# Altium footprint library JLC_25.PcbLib: 87 footprints (part 4 of 6)
Each footprint in its own frame and in the unit in brackets; x right, y up, seen from the top. Pads: shape width x height; smd on the part's side, far side on the other; paste and mask are expansions set on the pad; w line width, h text height; cw(c..) or ccw(c..) is an arc to the next point about the centre after c.
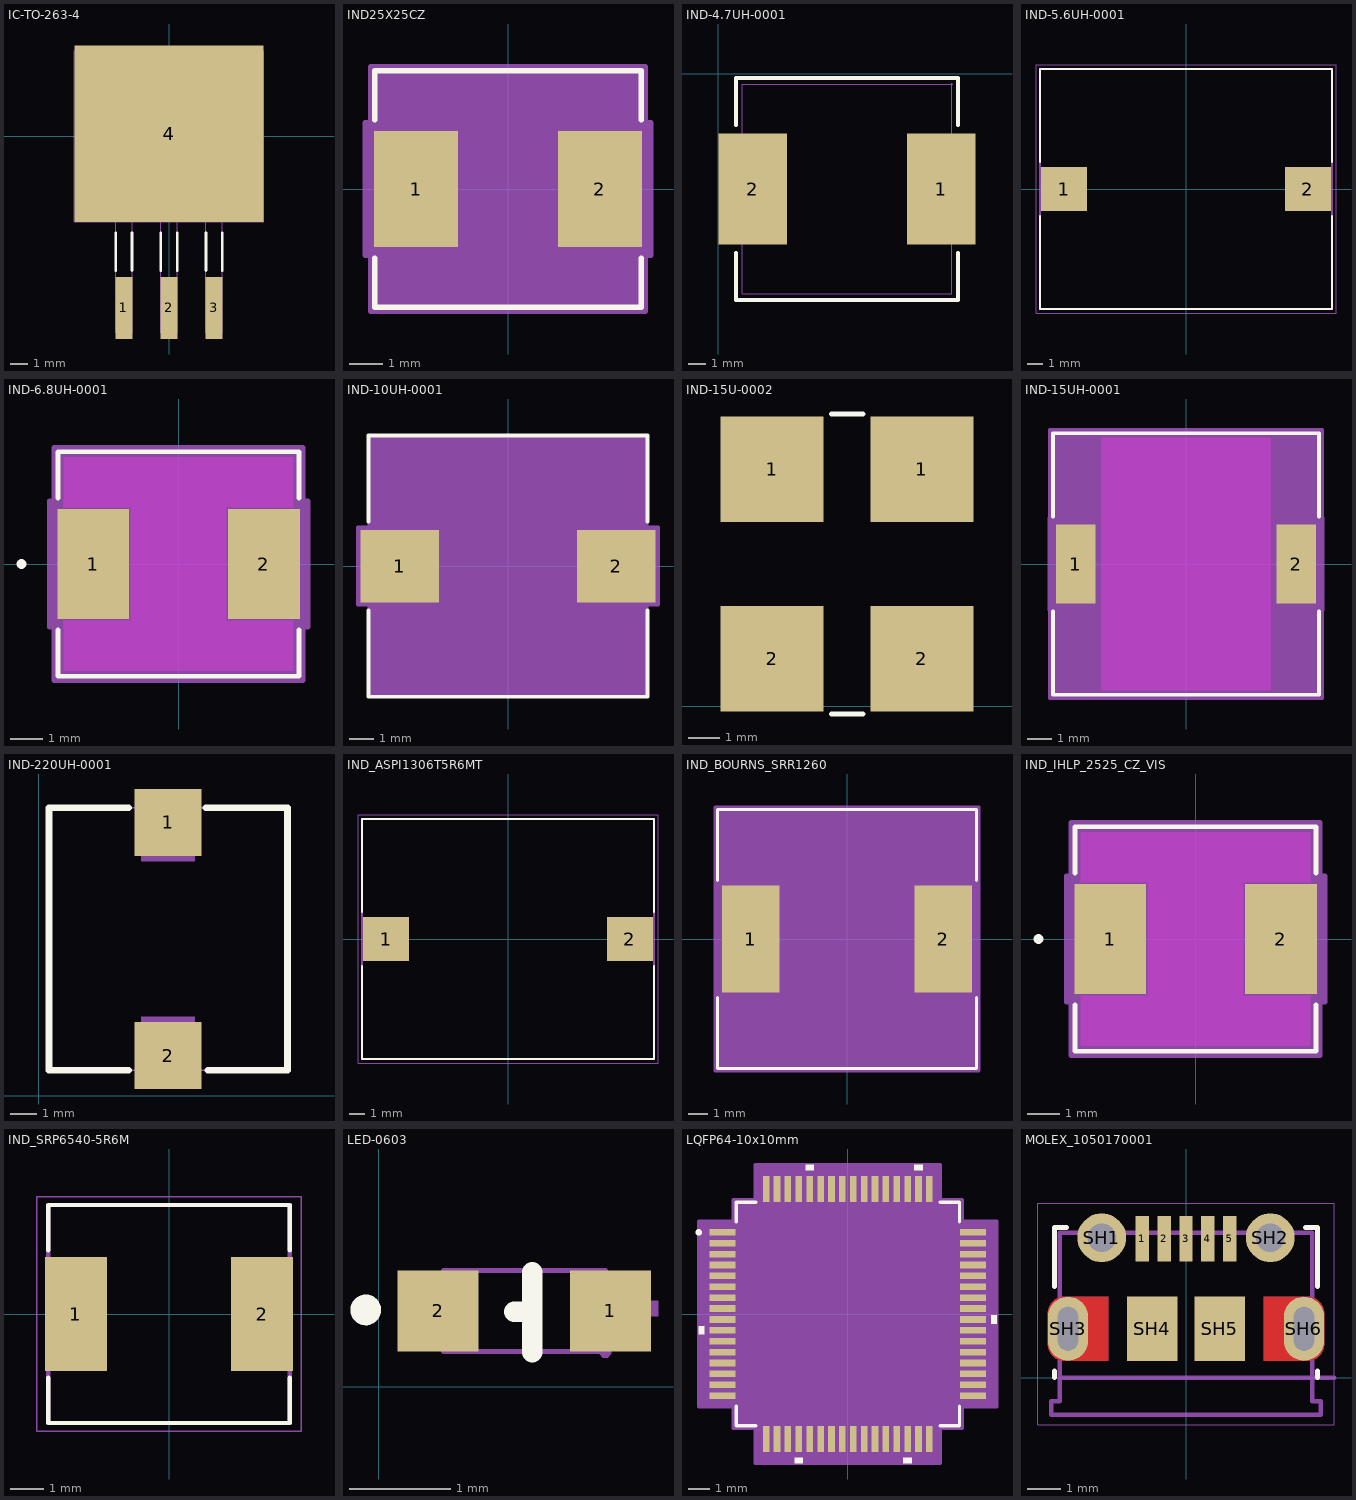
[diagram p3: the footprints below, top view; thin cyan lines are the x and y axes]

## IC-TO-263-4 [mil]
pads (4):
  rect 38x138 smd paste-69 mask-69: 1(-100,-381) 2(0,-381) 3(100,-381)
  rect 420x392 smd paste-210 mask-210: 4(0,6)
Top Overlay:
  lines w6: -118,-298 -118,-214 ; -82,-298 -82,-214 ; -18,-298 -18,-214 ; 18,-298 18,-214 ; 82,-298 82,-214 ; 118,-298 118,-214
Mechanical 13:
  lines w1: -210,-190 210,-190 210,190 -210,190 -210,-190 ; -118,-436 -118,-190 -82,-190 -82,-436 -118,-436 ; -18,-436 -18,-190 18,-190 18,-436 -18,-436 ; 82,-436 82,-190 118,-190 118,-436 82,-436
3D body "ktt3.step": height 67.09, standoff -2.01, extent -210,-365 210,118.11

## IND25X25CZ [mil]
pads (2):
  rect 98x135 smd paste-67.5 mask-67.5: 1(-107,0) 2(107,0)
Top Overlay:
  lines w6: -155,-80.6 -155,-137.5 155,-137.5 155,-80.6 ; -155,80.6 -155,137.5 155,137.5 155,80.6
Mechanical 13:
  lines w1: -150,-132.5 150,-132.5 150,132.5 -150,132.5 -150,-132.5
Mechanical 15:
  region: -160,-77.5 -166,-77.5 -166,77.5 -160,77.5 -160,142.5 160,142.5 160,77.5 166,77.5 166,-77.5 160,-77.5 160,-142.5 -160,-142.5
  region: 150,-132.5 -150,-132.5 -150,132.5 150,132.5
  lines w6: -166,-77.5 -166,77.5 -160,77.5 -160,142.5 160,142.5 160,77.5 166,77.5 166,-77.5 160,-77.5 160,-142.5 -160,-142.5 -160,-77.5 -166,-77.5
3D body "IND25X25CZ.step": height 117.99, standoff 0, extent -150,-132.52 150,132.52

## IND-4.7UH-0001 [mm]
pads (2):
  rect 4x6.5 smd paste+0 mask+0.051: 1(13,-6.731) 2(2,-6.731)
Top Overlay:
  lines w0.254: 1.023,-10.462 1.023,-13.208 2.039,-13.208 7.5,-13.208 12.898,-13.208 13.977,-13.208 13.977,-10.462 ; 1.023,-3 1.023,-0.254 2.103,-0.254 7.5,-0.254 12.961,-0.254 13.977,-0.254 13.977,-3
Mechanical 15:
  region: 13.66,-0.631 13.66,-0.606 13.625,-0.572 13.576,-0.572 13.541,-0.606 13.54,-0.631 13.541,-0.655 13.576,-0.69 13.625,-0.69 13.66,-0.655
  region: 11.4,-4.231 13.6,-4.231 13.6,-9.231 11.4,-9.231
  region: 1.4,-4.231 3.6,-4.231 3.6,-9.231 1.4,-9.231
  lines w0.051: 1.4,-12.831 1.4,-0.631 13.6,-0.631 13.6,-12.831 1.4,-12.831

## IND-5.6UH-0001 [mm]
height 7.11
pads (2):
  rect 2.92x2.79 smd: 1(-7.73,0) 2(7.73,0)
Top Overlay:
  lines w0.127: -9.27,-1.715 -9.27,-7.62 9.27,-7.62 9.27,-1.715 ; -9.27,1.715 -9.27,7.62 9.27,7.62 9.27,1.715
Mechanical 13:
  lines w0.127: -9.27,-7.62 -9.27,7.62 9.27,7.62 9.27,-7.62 -9.27,-7.62
Mechanical 15:
  lines w0.05: -9.52,-7.87 -9.52,7.87 9.52,7.87 9.52,-7.87 -9.52,-7.87
3D body "ASPI-1306T.STEP": height 6.23, standoff -0.87, extent -9.27,-7.62 9.27,7.62

## IND-6.8UH-0001 [mil]
pads (2):
  rect 88x135 smd paste+0 mask+0: 1(-104.5,0) 2(104.5,0)
Top Layer keep-out:
  region: -140.5,-130.5 -140.5,-69.5 140.5,-69.5 140.5,-130.5
  region: -140.5,69.5 -140.5,130.5 140.5,130.5 140.5,69.5
  region: -58.5,-69.5 -58.5,69.5 58.5,69.5 58.5,-69.5
Top Overlay:
  circle w6: c-192.5,0 r3
  lines w6: -147.5,-80.6 -147.5,-137.5 147.5,-137.5 147.5,-80.6 ; -147.5,80.6 -147.5,137.5 147.5,137.5 147.5,80.6
Keep-Out Layer:
  region: -58.5,-69.5 -58.5,69.5 58.5,69.5 58.5,-69.5
Mechanical 13:
  circle w0: c-122.5,0 r3
  lines w1: -142.5,-132.5 -142.5,132.5 142.5,132.5 142.5,-132.5 -142.5,-132.5
Mechanical 15:
  region: -152.5,-77.5 -158.5,-77.5 -158.5,77.5 -152.5,77.5 -152.5,142.5 152.5,142.5 152.5,77.5 158.5,77.5 158.5,-77.5 152.5,-77.5 152.5,-142.5 -152.5,-142.5
  lines w6: -158.5,-77.5 -152.5,-77.5 -152.5,-142.5 152.5,-142.5 152.5,-77.5 158.5,-77.5 158.5,77.5 152.5,77.5 152.5,142.5 -152.5,142.5 -152.5,77.5 -158.5,77.5 -158.5,-77.5
3D body "IND_IHLP-2525CZ_VIS.step": height 120, standoff 0, extent -142.52,-132.52 142.52,132.52

## IND-10UH-0001 [mil]
pads (2):
  rect 126x116 smd paste+0 mask+0: 1(-173.5,0) 2(173.5,0)
Top Overlay:
  lines w6: -223.5,-71.1 -223.5,-209.5 223.5,-209.5 223.5,-71.1 ; -223.5,71.1 -223.5,209.5 223.5,209.5 223.5,71.1
Mechanical 13:
  circle w0: c-110.5,0 r3
  lines w0: -12,204.5 ccw(c0,204.5) 12,204.5
  lines w1: -218.5,-204.5 -218.5,204.5 218.5,204.5 218.5,-204.5 -218.5,-204.5
Mechanical 15:
  region: -222.5,-62 -240.5,-62 -240.5,62 -222.5,62 -222.5,208.5 222.5,208.5 222.5,62 240.5,62 240.5,-62 222.5,-62 222.5,-208.5 -222.5,-208.5
  lines w6: -240.5,-62 -222.5,-62 -222.5,-208.5 222.5,-208.5 222.5,-62 240.5,-62 240.5,62 222.5,62 222.5,208.5 -222.5,208.5 -222.5,62 -240.5,62 -240.5,-62
3D body "IND_BMRF001010401_PUL.step": height 157.09, standoff 0, extent -228.5,-204.49 228.5,204.49

## IND-15U-0002 [mm] "12V Buck"
pads (4):
  rect 3.3x3.4 smd paste+0 mask+0: 1(3.175,7.62) 1(8.001,7.62) 2(3.175,1.524) 2(8.001,1.524)
Top Overlay:
  lines w0.152: 5.08,-0.254 6.115,-0.254 ; 5.08,9.398 6.115,9.398
3D body "CSAD1010 3D Model.stp": height 10.79, standoff 0.01, extent -0.189,-0.328 11.111,9.472

## IND-15UH-0001 [mil] "7v Buck"
pads (2):
  rect 63x126 smd paste+0 mask+0: 1(-175.5,0) 2(175.5,0)
Top Layer keep-out:
  region: -135,-201 -135,201 135,201 135,-201
Top Overlay:
  lines w6: -211.5,-75.3 -211.5,-208 211.5,-208 211.5,-75.3 ; -211.5,75.3 -211.5,208 211.5,208 211.5,75.3
Mechanical 13:
  lines w1: -206.5,-203 206.5,-203 206.5,203 -206.5,203 -206.5,-203
Mechanical 15:
  region: -216.5,-73 -217,-73 -217,73 -216.5,73 -216.5,213 216.5,213 216.5,73 217,73 217,-73 216.5,-73 216.5,-213 -216.5,-213
  region: 206.5,-203 -206.5,-203 -206.5,203 206.5,203
  lines w6: -217,-73 -217,73 -216.5,73 -216.5,213 216.5,213 216.5,73 217,73 217,-73 216.5,-73 216.5,-213 -216.5,-213 -216.5,-73 -217,-73
3D body "DR1040.step": height 157.99, standoff 0, extent -206.5,-202.99 206.5,202.99

## IND-220UH-0001 [mm]
pads (2):
  rect 2.5x2.5 smd paste+0 mask+0.05: 1(4.831,10.204) 2(4.831,1.504)
Top Overlay:
  lines w0.254: 3.35,0.954 0.381,0.954 0.381,10.754 3.35,10.754 ; 6.231,10.754 9.281,10.754 9.281,0.954 6.312,0.954
Mechanical 15:
  region: 9.341,10.754 9.341,10.779 9.306,10.814 9.256,10.814 9.221,10.779 9.221,10.754 9.221,10.729 9.256,10.694 9.306,10.694 9.341,10.729
  region: 3.831,2.954 5.831,2.954 5.831,1.454 3.831,1.454
  region: 3.831,10.254 5.831,10.254 5.831,8.754 3.831,8.754
  lines w0.051: 0.381,0.954 0.381,10.754 3.832,10.754 3.832,10.254 5.831,10.254 5.831,10.754 9.281,10.754 9.281,0.954 5.831,0.954 5.83,1.454 3.832,1.454 3.832,0.954 0.381,0.954

## IND_ASPI1306T5R6MT [mm]
height 7.11
pads (2):
  rect 2.92x2.79 smd: 1(-7.73,0) 2(7.73,0)
Top Overlay:
  lines w0.127: -9.27,-1.715 -9.27,-7.62 9.27,-7.62 9.27,-1.715 ; -9.27,1.715 -9.27,7.62 9.27,7.62 9.27,1.715
Mechanical 13:
  lines w0.127: -9.27,-7.62 9.27,-7.62 9.27,7.62 -9.27,7.62 -9.27,-7.62
Mechanical 15:
  lines w0.05: -9.52,-7.87 9.52,-7.87 9.52,7.87 -9.52,7.87 -9.52,-7.87

## IND_BOURNS_SRR1260 [mil]
pads (2):
  rect 114x213 smd paste+0 mask+0: 1(-191,0) 2(191,0)
Top Overlay:
  lines w6: -257,-116.02 -257,-257 257,-257 257,-116.02 ; -257,116.02 -257,257 257,257 257,116.02
Mechanical 13:
  lines w1: -252,-252 -252,252 252,252 252,-252 -252,-252
Mechanical 15:
  region: -262,-116.5 -262,116.5 -262,262 262,262 262,116.5 262,-116.5 262,-262 -262,-262
  lines w6: -262,-262 262,-262 262,-116.5 262,116.5 262,262 -262,262 -262,116.5 -262,-116.5 -262,-262
3D body "IND_BOURNS_SRR1260.step": height 255.98, standoff 0, extent -252.01,-252.09 252.01,252.09

## IND_IHLP_2525_CZ_VIS [mil]
pads (2):
  rect 88x135 smd paste+0 mask+0: 1(-104.5,0) 2(104.5,0)
Top Layer keep-out:
  region: -140.5,-130.5 -140.5,-69.5 140.5,-69.5 140.5,-130.5
  region: -140.5,69.5 -140.5,130.5 140.5,130.5 140.5,69.5
  region: -58.5,-69.5 -58.5,69.5 58.5,69.5 58.5,-69.5
Top Overlay:
  circle w6: c-192.5,0 r3
  lines w6: -147.5,-80.6 -147.5,-137.5 147.5,-137.5 147.5,-80.6 ; -147.5,80.6 -147.5,137.5 147.5,137.5 147.5,80.6
Keep-Out Layer:
  region: -58.5,-69.5 -58.5,69.5 58.5,69.5 58.5,-69.5
Mechanical 13:
  circle w0: c-122.5,0 r3
  lines w1: -142.5,-132.5 -142.5,132.5 142.5,132.5 142.5,-132.5 -142.5,-132.5
Mechanical 15:
  region: -152.5,-77.5 -158.5,-77.5 -158.5,77.5 -152.5,77.5 -152.5,142.5 152.5,142.5 152.5,77.5 158.5,77.5 158.5,-77.5 152.5,-77.5 152.5,-142.5 -152.5,-142.5
  lines w6: -158.5,-77.5 -152.5,-77.5 -152.5,-142.5 152.5,-142.5 152.5,-77.5 158.5,-77.5 158.5,77.5 152.5,77.5 152.5,142.5 -152.5,142.5 -152.5,77.5 -158.5,77.5 -158.5,-77.5
3D body "IND_IHLP_2525_CZ_VIS.step": height 120, standoff 0, extent -142.52,-132.52 142.52,132.52

## IND_SRP6540-5R6M [mm]
pads (2):
  rect 1.85x3.4 smd: 1(-2.775,0) 2(2.775,0)
Top Overlay:
  lines w0.127: -3.6,-1.9 -3.6,-3.25 3.6,-3.25 3.6,-1.9 ; -3.6,1.9 -3.6,3.25 3.6,3.25 3.6,1.9
Mechanical 13:
  lines w0.127: -3.6,-3.25 -3.6,3.25 3.6,3.25 3.6,-3.25 -3.6,-3.25
Mechanical 15:
  lines w0.05: -3.95,-3.5 -3.95,3.5 3.95,3.5 3.95,-3.5 -3.95,-3.5
3D body "SRP6540-5R6M.step": height 4.05, standoff 0.06, extent -3.594,-3.251 3.594,3.251

## LED-0603 [mm]
pads (2):
  rect 0.8x0.8 smd: 1(2.291,0.751) 2(0.589,0.751)
Top Overlay:
  circle w0.152: c-0.127,0.762 r0.076
  lines w0.203: 1.341,0.743 1.516,0.743 ; 1.516,0.345 1.516,1.132
Mechanical 6:
  region: 2.1,0.853 2.761,0.853 2.761,0.7 2.1,0.7
  region: 2.376,0.476 2.376,1.136 2.528,1.136 2.528,0.476
  region: 0.247,0.801 0.907,0.801 0.907,0.648 0.247,0.648
Mechanical 15:
  region: 2.3,0.351 2.3,0.376 2.265,0.411 2.215,0.411 2.18,0.376 2.18,0.351 2.18,0.326 2.215,0.291 2.265,0.291 2.3,0.326
  region: 2.24,1.151 2.24,0.351 1.94,0.351 1.94,1.151
  region: 0.64,0.351 0.64,1.151 0.94,1.151 0.94,0.351
  lines w0.051: 0.64,0.351 2.24,0.351 2.24,1.151 0.64,1.151 0.64,0.351
3D body "IN-S63AT5A.stp": height 0.39, standoff 0, extent 0.649,0.356 2.249,1.156

## LQFP64-10x10mm [mm]
pads (64):
  rect 1.194x0.305 smd paste+0 mask+0: 1(-5.75,3.75) 2(-5.75,3.25) 3(-5.75,2.75) 4(-5.75,2.25) 5(-5.75,1.75) 6(-5.75,1.25) 7(-5.75,0.75) 8(-5.75,0.25) 9(-5.75,-0.25) 10(-5.75,-0.75) 11(-5.75,-1.25) 12(-5.75,-1.75) 13(-5.75,-2.25) 14(-5.75,-2.75) 15(-5.75,-3.25) 16(-5.75,-3.75) 33(5.75,-3.75) 34(5.75,-3.25) 35(5.75,-2.75) 36(5.75,-2.25) 37(5.75,-1.75) 38(5.75,-1.25) 39(5.75,-0.75) 40(5.75,-0.25) 41(5.75,0.25) 42(5.75,0.75) 43(5.75,1.25) 44(5.75,1.75) 45(5.75,2.25) 46(5.75,2.75) 47(5.75,3.25) 48(5.75,3.75)
  rect 0.305x1.194 smd paste+0 mask+0: 17(-3.75,-5.75) 18(-3.25,-5.75) 19(-2.75,-5.75) 20(-2.25,-5.75) 21(-1.75,-5.75) 22(-1.25,-5.75) 23(-0.75,-5.75) 24(-0.25,-5.75) 25(0.25,-5.75) 26(0.75,-5.75) 27(1.25,-5.75) 28(1.75,-5.75) 29(2.25,-5.75) 30(2.75,-5.75) 31(3.25,-5.75) 32(3.75,-5.75) 49(3.75,5.75) 50(3.25,5.75) 51(2.75,5.75) 52(2.25,5.75) 53(1.75,5.75) 54(1.25,5.75) 55(0.75,5.75) 56(0.25,5.75) 57(-0.25,5.75) 58(-0.75,5.75) 59(-1.25,5.75) 60(-1.75,5.75) 61(-2.25,5.75) 62(-2.75,5.75) 63(-3.25,5.75) 64(-3.75,5.75)
Top Overlay:
  circle w0.152: c-6.851,3.75 r0.076
  region: -6.601,-0.56 -6.855,-0.56 -6.855,-0.941 -6.601,-0.941
  region: -2.06,-6.601 -2.441,-6.601 -2.441,-6.855 -2.06,-6.855
  region: 2.94,-6.601 2.559,-6.601 2.559,-6.855 2.94,-6.855
  region: 6.601,-0.059 6.855,-0.059 6.855,-0.44 6.601,-0.44
  region: 3.441,6.601 3.06,6.601 3.06,6.855 3.441,6.855
  region: -1.559,6.601 -1.94,6.601 -1.94,6.855 -1.559,6.855
  lines w0.152: -5.131,-4.234 -5.131,-5.131 -4.234,-5.131 ; -5.131,4.234 -5.131,5.131 -4.234,5.131 ; 4.234,-5.131 5.131,-5.131 5.131,-4.234 ; 4.234,5.131 5.131,5.131 5.131,4.234
Mechanical 13:
  circle w0: c-4.518,3.75 r0.076
  lines w0.025: -5.004,3.734 -3.734,5.004 ; -5.004,-5.004 5.004,-5.004 5.004,5.004 -5.004,5.004 -5.004,-5.004
Mechanical 15:
  region: -4.258,-5.258 -5.258,-5.258 -5.258,-4.258 -6.855,-4.258 -6.855,4.258 -5.258,4.258 -5.258,5.258 -4.258,5.258 -4.258,6.855 4.258,6.855 4.258,5.258 5.258,5.258 5.258,4.258 6.855,4.258 6.855,-4.258 5.258,-4.258 5.258,-5.258 4.258,-5.258 4.258,-6.855 -4.258,-6.855
  lines w0.152: -6.855,-4.258 -5.258,-4.258 -5.258,-5.258 -4.258,-5.258 -4.258,-6.855 4.258,-6.855 4.258,-5.258 5.258,-5.258 5.258,-4.258 6.855,-4.258 6.855,4.258 5.258,4.258 5.258,5.258 4.258,5.258 4.258,6.855 -4.258,6.855 -4.258,5.258 -5.258,5.258 -5.258,4.258 -6.855,4.258 -6.855,-4.258
3D body "LQFP64-10x10mm.step": height 1.6, standoff 0, extent -5.997,-5.997 5.997,5.997

## MOLEX_1050170001 [mm]
height 2.85
pads (11):
  rect 0.4x1.35 smd mask+0.064: 1(-1.3,4.125) 2(-0.65,4.125) 3(0,4.125) 4(0.65,4.125) 5(1.3,4.125)
  round 1.45 hole 0.85 mask+0.064: SH1(-2.5,4.15) SH2(2.5,4.15)
  oval 1.2x1.9 hole 0.6 slot 1.3 at 90 deg mask+0: SH3(-3.5,1.45) SH6(3.5,1.45)
  rect 1.5x1.9 smd mask+0.064: SH4(-1,1.45) SH5(1,1.45)
Top Layer:
  region: 3.626,2.399 3.652,2.397 3.678,2.394 3.704,2.389 3.729,2.383 3.755,2.376 3.779,2.367 3.803,2.357 3.827,2.346 3.85,2.333 3.872,2.319 3.894,2.305 3.915,2.289 3.935,2.272 3.954,2.254 3.972,2.235 3.989,2.215 4.005,2.194 4.019,2.172 4.033,2.15 4.046,2.127 4.057,2.103 4.067,2.079 4.076,2.055 4.083,2.029 4.089,2.004 4.094,1.978 4.097,1.952 4.099,1.926 4.1,1.9 4.1,1 4.099,0.974 4.097,0.948 4.094,0.922 4.089,0.896 4.083,0.871 4.076,0.845 4.067,0.821 4.057,0.797 4.046,0.773 4.033,0.75 4.019,0.728 4.005,0.706 3.989,0.685 3.972,0.665 3.954,0.646 3.935,0.628 3.915,0.611 3.894,0.595 3.872,0.581 3.85,0.567 3.827,0.554 3.803,0.543 3.779,0.533 3.755,0.524 3.729,0.517 3.704,0.511 3.678,0.506 3.652,0.503 3.626,0.501 3.6,0.5 2.3,0.5 2.3,2.4 3.6,2.4
  region: -2.3,0.5 -3.6,0.5 -3.626,0.501 -3.652,0.503 -3.678,0.506 -3.704,0.511 -3.729,0.517 -3.755,0.524 -3.779,0.533 -3.803,0.543 -3.827,0.554 -3.85,0.567 -3.872,0.581 -3.894,0.595 -3.915,0.611 -3.935,0.628 -3.954,0.646 -3.972,0.665 -3.989,0.685 -4.005,0.706 -4.019,0.728 -4.033,0.75 -4.046,0.773 -4.057,0.797 -4.067,0.821 -4.076,0.845 -4.083,0.871 -4.089,0.896 -4.094,0.922 -4.097,0.948 -4.099,0.974 -4.1,1 -4.1,1.9 -4.099,1.926 -4.097,1.952 -4.094,1.978 -4.089,2.004 -4.083,2.029 -4.076,2.055 -4.067,2.079 -4.057,2.103 -4.046,2.127 -4.033,2.15 -4.019,2.172 -4.005,2.194 -3.989,2.215 -3.972,2.235 -3.954,2.254 -3.935,2.272 -3.915,2.289 -3.894,2.305 -3.872,2.319 -3.85,2.333 -3.827,2.346 -3.803,2.357 -3.779,2.367 -3.755,2.376 -3.729,2.383 -3.704,2.389 -3.678,2.394 -3.652,2.397 -3.626,2.399 -3.6,2.4 -2.3,2.4
Bottom Layer:
  region: -2.3,0.5 -3.6,0.5 -3.626,0.501 -3.652,0.503 -3.678,0.506 -3.704,0.511 -3.729,0.517 -3.755,0.524 -3.779,0.533 -3.803,0.543 -3.827,0.554 -3.85,0.567 -3.872,0.581 -3.894,0.595 -3.915,0.611 -3.935,0.628 -3.954,0.646 -3.972,0.665 -3.989,0.685 -4.005,0.706 -4.019,0.728 -4.033,0.75 -4.046,0.773 -4.057,0.797 -4.067,0.821 -4.076,0.845 -4.083,0.871 -4.089,0.896 -4.094,0.922 -4.097,0.948 -4.099,0.974 -4.1,1 -4.1,1.9 -4.099,1.926 -4.097,1.952 -4.094,1.978 -4.089,2.004 -4.083,2.029 -4.076,2.055 -4.067,2.079 -4.057,2.103 -4.046,2.127 -4.033,2.15 -4.019,2.172 -4.005,2.194 -3.989,2.215 -3.972,2.235 -3.954,2.254 -3.935,2.272 -3.915,2.289 -3.894,2.305 -3.872,2.319 -3.85,2.333 -3.827,2.346 -3.803,2.357 -3.779,2.367 -3.755,2.376 -3.729,2.383 -3.704,2.389 -3.678,2.394 -3.652,2.397 -3.626,2.399 -3.6,2.4 -2.3,2.4
  region: 3.626,2.399 3.652,2.397 3.678,2.394 3.704,2.389 3.729,2.383 3.755,2.376 3.779,2.367 3.803,2.357 3.827,2.346 3.85,2.333 3.872,2.319 3.894,2.305 3.915,2.289 3.935,2.272 3.954,2.254 3.972,2.235 3.989,2.215 4.005,2.194 4.019,2.172 4.033,2.15 4.046,2.127 4.057,2.103 4.067,2.079 4.076,2.055 4.083,2.029 4.089,2.004 4.094,1.978 4.097,1.952 4.099,1.926 4.1,1.9 4.1,1 4.099,0.974 4.097,0.948 4.094,0.922 4.089,0.896 4.083,0.871 4.076,0.845 4.067,0.821 4.057,0.797 4.046,0.773 4.033,0.75 4.019,0.728 4.005,0.706 3.989,0.685 3.972,0.665 3.954,0.646 3.935,0.628 3.915,0.611 3.894,0.595 3.872,0.581 3.85,0.567 3.827,0.554 3.803,0.543 3.779,0.533 3.755,0.524 3.729,0.517 3.704,0.511 3.678,0.506 3.652,0.503 3.626,0.501 3.6,0.5 2.3,0.5 2.3,2.4 3.6,2.4
Top Overlay:
  lines w0.15: -3.9,2.7 -3.9,4.45 -3.55,4.45 ; 3.55,4.45 3.9,4.45 3.9,2.7
  lines w0.152: -3.9,0 -3.9,0.2 ; 3.9,0 3.9,0.2
Top Solder:
  region: 3.659,2.46 3.688,2.457 3.717,2.451 3.746,2.444 3.774,2.436 3.802,2.426 3.829,2.415 3.856,2.402 3.882,2.388 3.907,2.373 3.931,2.356 3.955,2.338 3.977,2.319 3.998,2.298 4.019,2.277 4.038,2.255 4.056,2.231 4.073,2.207 4.088,2.182 4.102,2.156 4.115,2.129 4.126,2.102 4.136,2.074 4.144,2.046 4.151,2.017 4.157,1.988 4.16,1.959 4.163,1.929 4.163,1.9 4.163,1 4.163,0.971 4.16,0.941 4.157,0.912 4.151,0.883 4.144,0.854 4.136,0.826 4.126,0.798 4.115,0.771 4.102,0.744 4.088,0.718 4.073,0.693 4.056,0.669 4.038,0.645 4.019,0.623 3.998,0.602 3.977,0.581 3.955,0.562 3.931,0.544 3.907,0.527 3.882,0.512 3.856,0.498 3.829,0.485 3.802,0.474 3.774,0.464 3.746,0.456 3.717,0.449 3.688,0.443 3.659,0.44 3.629,0.437 3.6,0.436 2.237,0.436 2.236,0.436 2.236,2.463 3.629,2.463
  region: -2.236,0.436 -2.237,0.436 -3.6,0.436 -3.629,0.437 -3.659,0.44 -3.688,0.443 -3.717,0.449 -3.746,0.456 -3.774,0.464 -3.802,0.474 -3.829,0.485 -3.856,0.498 -3.882,0.512 -3.907,0.527 -3.931,0.544 -3.955,0.562 -3.977,0.581 -3.998,0.602 -4.019,0.623 -4.038,0.645 -4.056,0.669 -4.073,0.693 -4.088,0.718 -4.102,0.744 -4.115,0.771 -4.126,0.798 -4.136,0.826 -4.144,0.854 -4.151,0.883 -4.157,0.912 -4.16,0.941 -4.163,0.971 -4.163,1 -4.163,1.9 -4.163,1.929 -4.16,1.959 -4.157,1.988 -4.151,2.017 -4.144,2.046 -4.136,2.074 -4.126,2.102 -4.115,2.129 -4.102,2.156 -4.088,2.182 -4.073,2.207 -4.056,2.231 -4.038,2.255 -4.019,2.277 -3.998,2.298 -3.977,2.319 -3.955,2.338 -3.931,2.356 -3.907,2.373 -3.882,2.388 -3.856,2.402 -3.829,2.415 -3.802,2.426 -3.774,2.436 -3.746,2.444 -3.717,2.451 -3.688,2.457 -3.659,2.46 -3.629,2.463 -2.236,2.463
Bottom Solder:
  region: -2.236,0.436 -2.237,0.436 -3.6,0.436 -3.629,0.437 -3.659,0.44 -3.688,0.443 -3.717,0.449 -3.746,0.456 -3.774,0.464 -3.802,0.474 -3.829,0.485 -3.856,0.498 -3.882,0.512 -3.907,0.527 -3.931,0.544 -3.955,0.562 -3.977,0.581 -3.998,0.602 -4.019,0.623 -4.038,0.645 -4.056,0.669 -4.073,0.693 -4.088,0.718 -4.102,0.744 -4.115,0.771 -4.126,0.798 -4.136,0.826 -4.144,0.854 -4.151,0.883 -4.157,0.912 -4.16,0.941 -4.163,0.971 -4.163,1 -4.163,1.9 -4.163,1.929 -4.16,1.959 -4.157,1.988 -4.151,2.017 -4.144,2.046 -4.136,2.074 -4.126,2.102 -4.115,2.129 -4.102,2.156 -4.088,2.182 -4.073,2.207 -4.056,2.231 -4.038,2.255 -4.019,2.277 -3.998,2.298 -3.977,2.319 -3.955,2.338 -3.931,2.356 -3.907,2.373 -3.882,2.388 -3.856,2.402 -3.829,2.415 -3.802,2.426 -3.774,2.436 -3.746,2.444 -3.717,2.451 -3.688,2.457 -3.659,2.46 -3.629,2.463 -2.236,2.463
  region: 3.659,2.46 3.688,2.457 3.717,2.451 3.746,2.444 3.774,2.436 3.802,2.426 3.829,2.415 3.856,2.402 3.882,2.388 3.907,2.373 3.931,2.356 3.955,2.338 3.977,2.319 3.998,2.298 4.019,2.277 4.038,2.255 4.056,2.231 4.073,2.207 4.088,2.182 4.102,2.156 4.115,2.129 4.126,2.102 4.136,2.074 4.144,2.046 4.151,2.017 4.157,1.988 4.16,1.959 4.163,1.929 4.163,1.9 4.163,1 4.163,0.971 4.16,0.941 4.157,0.912 4.151,0.883 4.144,0.854 4.136,0.826 4.126,0.798 4.115,0.771 4.102,0.744 4.088,0.718 4.073,0.693 4.056,0.669 4.038,0.645 4.019,0.623 3.998,0.602 3.977,0.581 3.955,0.562 3.931,0.544 3.907,0.527 3.882,0.512 3.856,0.498 3.829,0.485 3.802,0.474 3.774,0.464 3.746,0.456 3.717,0.449 3.688,0.443 3.659,0.44 3.629,0.437 3.6,0.436 2.237,0.436 2.236,0.436 2.236,2.463 3.629,2.463
Mechanical 13:
  lines w0.13: 4.4,0 -3.75,0 ; -3.75,0 -3.75,-0.7 -4,-0.7 -4,-1.1 4,-1.1 4,-0.7 3.75,-0.7 3.75,4.3 -3.75,4.3 -3.75,0
Mechanical 15:
  lines w0.01: -4.4,-1.4 4.4,-1.4 4.4,5.175 -4.4,5.175 -4.4,-1.4
3D body "1050170001.STEP": height 2.75, standoff -0.73, extent -4,-1 4,4.4